# Altium footprint library SON100P300X300X80-7N.PcbLib: 1 footprints
Each footprint in its own frame and in the unit in brackets; x right, y up, seen from the top. Pads: shape width x height; smd on the part's side, far side on the other; paste and mask are expansions set on the pad; w line width, h text height; cw(c..) or ccw(c..) is an arc to the next point about the centre after c.
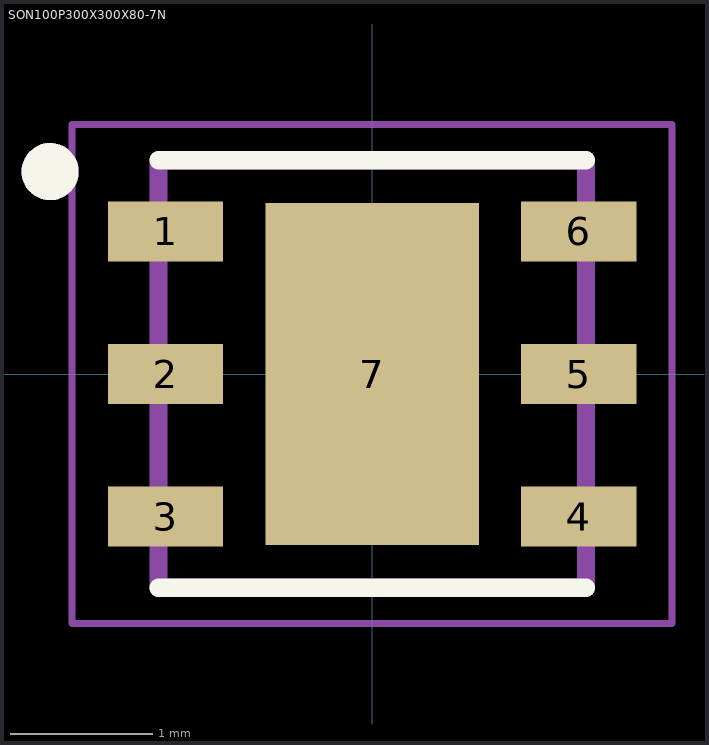
[diagram p0: the footprint, top view; thin cyan lines are the x and y axes]

## SON100P300X300X80-7N [mm]
pads (7):
  rect 0.81x0.42 smd: 1(-1.45,1) 2(-1.45,0) 3(-1.45,-1) 4(1.45,-1) 5(1.45,0) 6(1.45,1)
  rect 1.5x2.4 smd: 7(0,0)
Top Overlay:
  circle w0.2: c-2.26,1.42 r0.1
  lines w0.127: -1.5,-1.5 1.5,-1.5 ; -1.5,1.5 1.5,1.5
Top Paste:
  region: -0.471,0.76 0.47,0.76 0.47,-0.761 -0.471,-0.761
Outline:
  circle w0.2: c-2.26,1.42 r0.1
  lines w0.05: -2.105,-1.75 -2.105,1.75 2.105,1.75 2.105,-1.75 -2.105,-1.75
  lines w0.127: -1.5,-1.5 -1.5,1.5 1.5,1.5 1.5,-1.5 -1.5,-1.5
3D body: height 0.8, standoff 0, extent -1.55,-1.5 1.55,1.5